# Altium footprint library BHX1-1225-SM.PcbLib: 1 footprints
Each footprint in its own frame and in the unit in brackets; x right, y up, seen from the top. Pads: shape width x height; smd on the part's side, far side on the other; paste and mask are expansions set on the pad; w line width, h text height; cw(c..) or ccw(c..) is an arc to the next point about the centre after c.
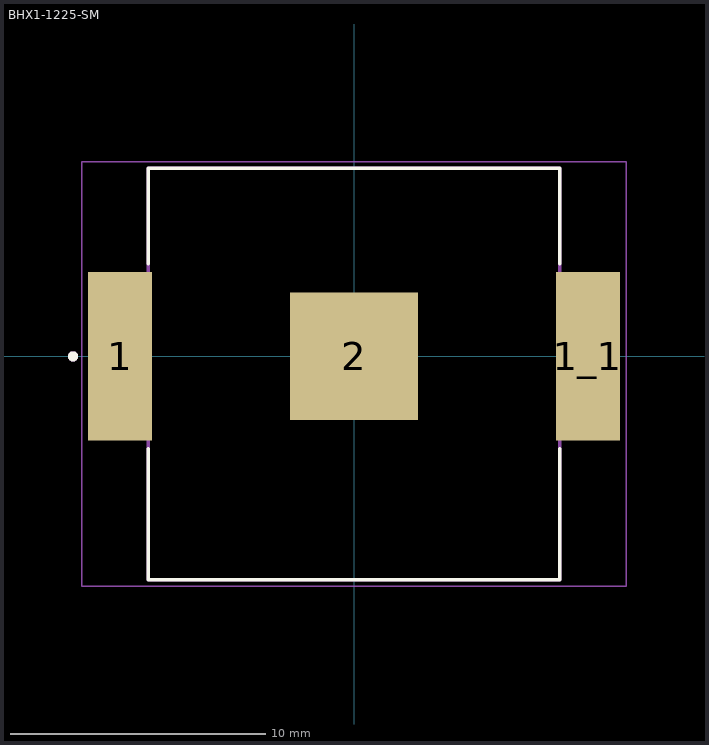
[diagram p0: the footprint, top view; thin cyan lines are the x and y axes]

## BHX1-1225-SM [mm]
pads (3):
  rect 2.5x6.6 smd: 1(-9.155,0) 1_1(9.155,0)
  rect 5x5 smd: 2(0,0)
Top Overlay:
  circle w0.2: c-11,0 r0.1
  lines w0.127: -8.05,-3.62 -8.05,-8.74 8.05,-8.74 8.05,-3.62 ; -8.05,3.62 -8.05,7.36 8.05,7.36 8.05,3.62
Mechanical 13:
  circle w0.2: c-11,0 r0.1
  lines w0.127: -8.05,-8.74 -8.05,7.36 8.05,7.36 8.05,-8.74 -8.05,-8.74
Mechanical 15:
  lines w0.05: -10.655,-8.99 10.655,-8.99 10.655,7.61 -10.655,7.61 -10.655,-8.99
3D body "BHX1-1225-SM--3DModel-STEP-56544.STEP": height 3.55, standoff 0, extent -9.905,-8.763 9.905,7.481